# Altium footprint library QSOP-16.PcbLib: 1 footprints
Each footprint in its own frame and in the unit in brackets; x right, y up, seen from the top. Pads: shape width x height; smd on the part's side, far side on the other; paste and mask are expansions set on the pad; w line width, h text height; cw(c..) or ccw(c..) is an arc to the next point about the centre after c.
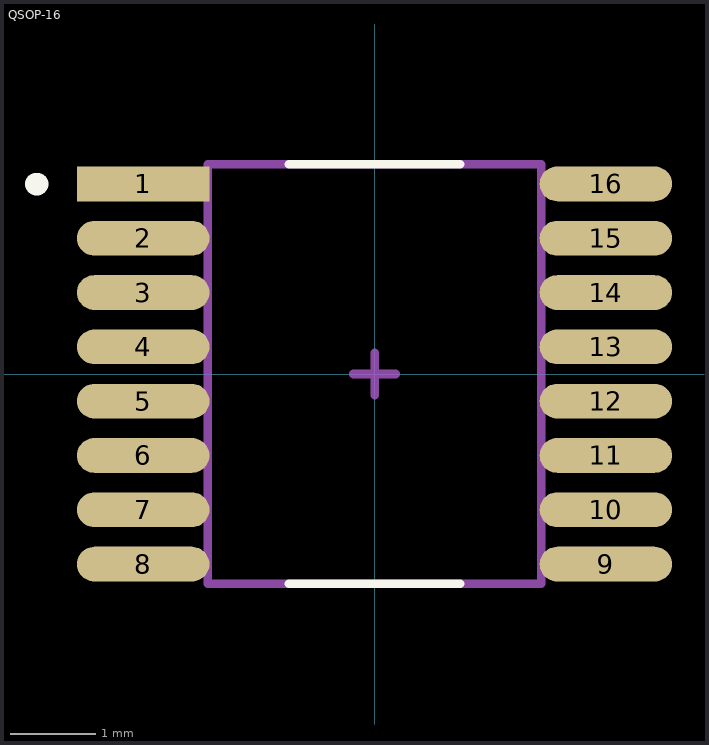
[diagram p0: the footprint, top view; thin cyan lines are the x and y axes]

## QSOP-16 [mil]
pads (16):
  rect 61x16 smd mask+2.01: 1(-106.5,87.5)
  oval 61x16 smd mask+2.01: 2(-106.5,62.5) 3(-106.5,37.5) 4(-106.5,12.5) 5(-106.5,-12.5) 6(-106.5,-37.5) 7(-106.5,-62.5) 8(-106.5,-87.5) 9(106.5,-87.5) 10(106.5,-62.5) 11(106.5,-37.5) 12(106.5,-12.5) 13(106.5,12.5) 14(106.5,37.5) 15(106.5,62.5) 16(106.5,87.5)
Top Overlay:
  lines w3.94: -39.37,-96.46 39.37,-96.46 ; -39.37,96.46 39.37,96.46
  lines w10: -155.91,87.61 ccw(c-155.51,87.6) -155.12,87.6
Mechanical 13:
  lines w3.94: -76.77,-96.46 -76.77,96.46 76.77,96.46 76.77,0 76.77,-96.46 -76.77,-96.46
Mechanical 15:
  lines w3.94: -9.84,0 0,0 ; 9.84,0 0,0 ; 0,0 0,-9.84 0,0 ; 0,0 0,9.84 0,0
3D body "QSOP16.step": height 69.75, standoff 0.03, extent -118.5,-98.03 118.5,98.03